# EAGLE library part 338070-12_S (library con-te-micro-match)
RECEPTACAL
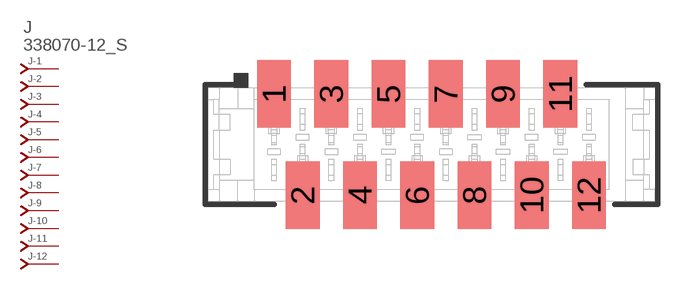
[diagram p11: symbol with the pads of 338070-12; footprint 338070-12]

Designator prefix J; gates -1=J-NV -2=J-N -3=J-N -4=J-N -5=J-N -6=J-N -7=J-N -8=J-N -9=J-N -10=J-N -11=J-N -12=J-N

## 338070-12_S  [338070-12]
1  -1:J  pas
2  -2:J  pas
3  -3:J  pas
4  -4:J  pas
5  -5:J  pas
6  -6:J  pas
7  -7:J  pas
8  -8:J  pas
9  -9:J  pas
10  -10:J  pas
11  -11:J  pas
12  -12:J  pas

## Footprint 338070-12 (pad centres in mm)
RECEPTACAL
smd 1.5 x 3: 1 -6.985,2.25; 2 -5.715,-2.25; 3 -4.445,2.25; 4 -3.175,-2.25; 5 -1.905,2.25; 6 -0.635,-2.25; 7 0.635,2.25; 8 1.905,-2.25; 9 3.175,2.25; 10 4.445,-2.25; 11 5.715,2.25; 12 6.985,-2.25